# EAGLE library part SN74LVC2G126 (library 74xx-little-de)
Dual Bus Buffer Gate With 3-State Outputs Source: http://www.ti.com.cn/cn/lit/ds/symlink/sn74lvc2g126.pdf
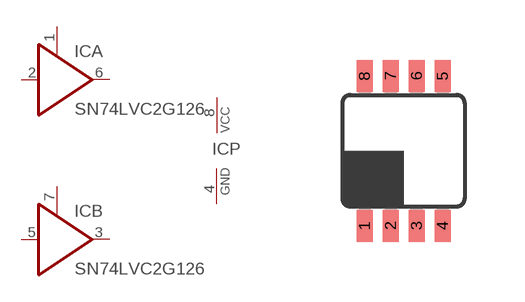
[diagram p3: symbol with the pads of DCT_R-PDSO-G8; footprint DCT_R-PDSO-G8]

Designator prefix IC; gates A=74126 B=74126 P=PWRN

## SN74LVC2G126DCT  [DCT_R-PDSO-G8]
1  A:OE  in
2  A:I  in
3  B:O  out
4  P:GND  pwr
5  B:I  in
6  A:O  out
7  B:OE  in
8  P:VCC  pwr

## Footprint DCT_R-PDSO-G8 (pad centres in mm)
DCT (R-PDSO-G8) PLSTIG SMALL-OUTLINE PACKAGE Source: http://focus.ti.com/lit/ds/symlink/sn74lvc2g53.pdf
smd 0.4 x 0.8: 1 -0.975,-1.875; 2 -0.325,-1.875; 3 0.325,-1.875; 4 0.975,-1.875; 5 0.975,1.875; 6 0.325,1.875; 7 -0.325,1.875; 8 -0.975,1.875